# Altium schematic symbol library Schlib2.SchLib: 9 symbols
Pins are listed as number, name and electrical type; pins without a type are passive.

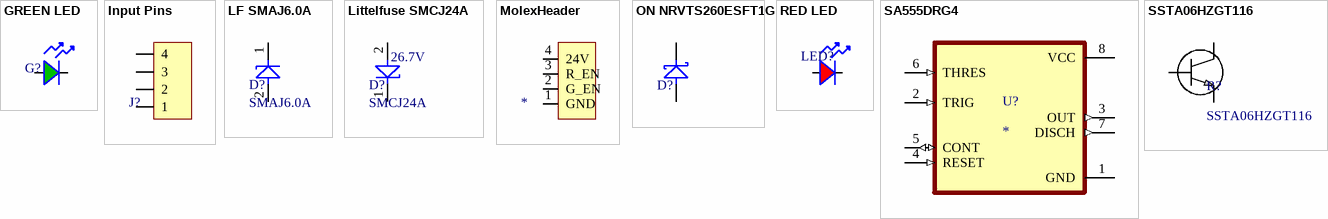
[diagram p0: symbols GREEN LED to SSTA06HZGT116]

## GREEN LED
designator G?, comment XZDG25X109FS  (value not drawn)
Green 525nm LED Indication - Discrete 3.5V 1411 (3528 Metric); Supplier 1: Digikey; Supplier Part Number 1: 1497-1345-1-ND
footprint GREEN LED
pins: 1, 2

## Input Pins
designator J?  (value not drawn)
4 Pin Input Connector
footprint 4-Pin Bare Wire Pads
pins: 1, 2, 3, 4

## LF SMAJ6.0A
designator D?, comment SMAJ6.0A
10.3V Clamp 38.8A Ipp Tvs Diode Surface Mount DO-214AC (SMA); Supplier 1: Digi-Key; Supplier Part Number 1: SMAJ6.0ALFCT-ND
footprint LITTELFUSE SMAJ6.0A (TVS DIODE 6V 10.3V DO214AC)
pins: 1, 2

## Littelfuse SMCJ24A
designator D?, comment SMCJ24A  value 26.7V
38.9V Clamp 38.6A Ipp Tvs Diode Surface Mount DO-214AB (SMCJ); Supplier Part Number 1: SMCJ24ALFCT-ND; Supplier 1: Digikey
footprint LITTELFUSE SMCJ24A (TVS DIODE 24V 38.9V DO214AB)
pins: 1 Cathode, 2 Anode

## MolexHeader
designator *  (value not drawn)
pins: 1 GND, 2 G_EN, 3 R_EN, 4 24V

## ON NRVTS260ESFT1G
designator D?, comment NRVTS260ESFT1G  (value not drawn)
Diode Schottky 60V 2A Surface Mount SOD-123FL; Supplier 1: Digi-Key; Supplier Part Number 1: NRVTS260ESFT1GOSCT-ND
footprint ON NRVTS260ESFT1G (DIODE SCHOTTKY 60V 2A SOD123FL)
pins: 1, 2

## RED LED
designator LED?, comment OVS5MRBCR4  (value not drawn)
Red 625nm LED Indication - Discrete 2.2V 2-SMD, No Lead; Supplier 1: Digikey; Supplier Part Number 1: 365-1546-1-ND
footprint RED LED
pins: 1, 2 s

## SA555DRG4
designator U?
Precision timer for -55 to 85C operation 8-SOIC -40 to 85; MP: SA555DRG4; MF: Texas Instruments; Check_prices: https://www.snapeda.com/parts/SA555DRG4/Texas%20Instruments/view-part/387582/?ref=eda; Package: SOIC-8 Texas Instruments; Purchase-URL: https://pricing.snapeda.com/search/part/SA555DRG4/?ref=eda; Value: *; SnapEDA_Link: https://www.snapeda.com/parts/SA555DRG4/Texas%20Instruments/view-part/387582/?ref=snap; Digi-Key_Part_Number: 296-48948-1-ND
footprint 555TIMER
pins: 1 GND (power), 2 TRIG (in), 3 OUT (out), 4 RESET (in), 5 CONT (io), 6 THRES (in), 7 DISCH (out), 8 VCC (power)

## SSTA06HZGT116
designator R?
No Description Available; Vendor: ROHM Semiconductor; Built_By: EMA_Matt; SourceLibrary: Rohm_2019-09-23; Manufacturer_Part_Number: SSTA06HZGT116; Copyright: Copyright (C) 2018 Accelerated Designs. All rights reserved; RefDes: RefDes; Type: DEV
footprint TRANSISTOR
pins: 1 Emitter, 2 Base, 3 Collector